# Altium integrated library CSR0603JT27L0.IntLib: 1 symbol
Pins are listed as number, name and electrical type; pins without a type are passive.

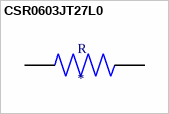
[diagram p0: symbol CSR0603JT27L0]

## CSR0603JT27L0
designator R
RES 0.027 OHM 5% 1/8W 0603; MP: CSR0603JT27L0; MF: Stackpole Electronics Inc; SnapEDA_Link: https://www.snapeda.com/parts/CSR0603JT27L0/Stackpole%20Electronics%20Inc/view-part/3958255/?ref=snap; Availability: Unavailable; Price: None; Package: 1608 Rohm Semiconductor; Value: *
footprint RESC1608X55N
pins: 1, 2